# EAGLE library part LTC2955-2 (library jason)
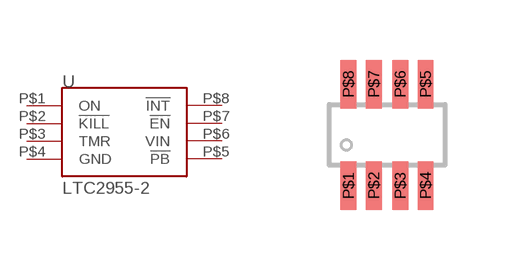
[diagram p1: symbol with the pads of TSOT23-8; footprint TSOT23-8]

Designator prefix -

## LTC2955-2  [TSOT23-8]
P$1  ON
P$2  !KILL
P$3  TMR
P$4  GND  pwr
P$5  !PB
P$6  VIN  pwr
P$7  !EN  out
P$8  !INT  out

## Footprint TSOT23-8 (pad centres in mm)
S6 Package 6-Lead Plastic TSOT-23 Source: http://cds.linear.com/docs/Datasheet/623012fb.pdf
smd 0.399 x 1.219: P$1 -0.965,-1.27; P$2 -0.33,-1.27; P$3 0.33,-1.27; P$4 0.965,-1.27; P$5 0.965,1.27; P$6 0.33,1.27; P$7 -0.33,1.27; P$8 -0.965,1.27